# Altium footprint library Diode.PcbLib: 6 footprints
Each footprint in its own frame and in the unit in brackets; x right, y up, seen from the top. Pads: shape width x height; smd on the part's side, far side on the other; paste and mask are expansions set on the pad; w line width, h text height; cw(c..) or ccw(c..) is an arc to the next point about the centre after c.
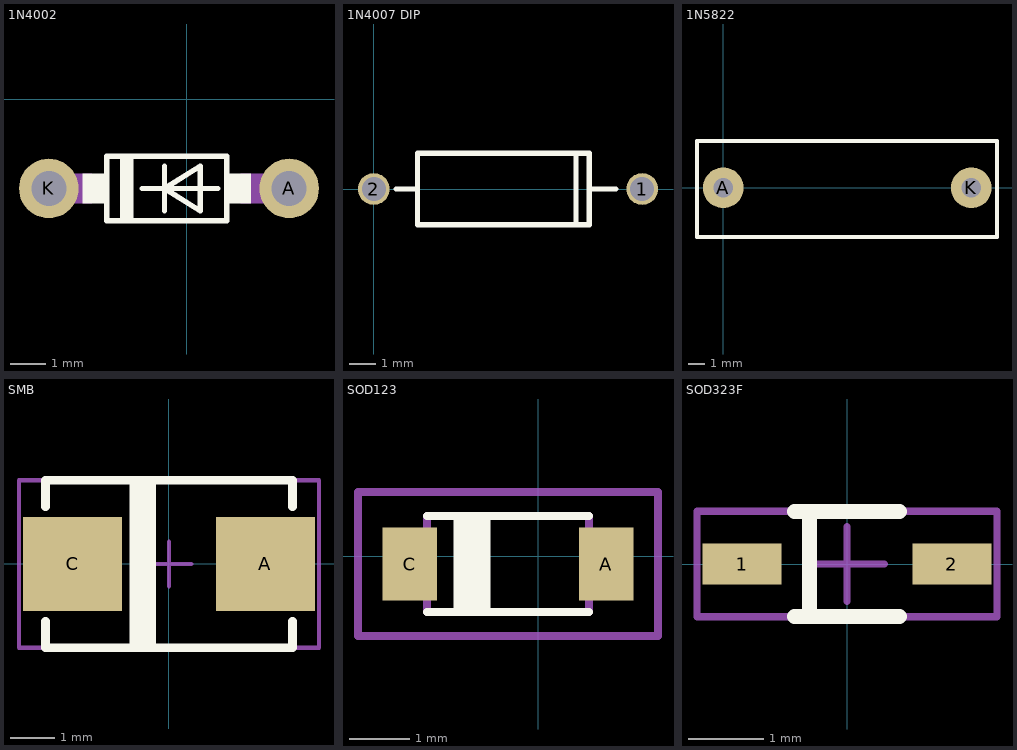
[diagram p0: the footprints below, top view; thin cyan lines are the x and y axes]

## 1N4002 [mm]
pads (2):
  round 1.7 hole 1: A(2.921,-2.54) K(-3.937,-2.54)
Top Overlay:
  region: -1.524,-3.492 -1.905,-3.492 -1.905,-1.62 -1.524,-1.62
  region: 1.828,-2.965 1.194,-2.965 1.194,-2.115 1.828,-2.115
  region: -2.336,-2.965 -2.973,-2.965 -2.973,-2.115 -2.336,-2.115
  lines w0.152: -1.27,-2.54 -0.635,-2.54 ; -0.635,-3.175 -0.635,-2.54 ; -0.635,-1.905 -0.635,-2.54 ; 0.889,-2.54 -0.635,-2.54 ; -0.635,-2.54 0.381,-3.175 0.381,-1.905 -0.635,-2.54 ; -2.286,-3.46 1.143,-3.46 1.143,-1.62 -2.286,-1.62 -2.286,-3.46
Mechanical 13:
  lines w0.85: -3.81,-2.54 -2.773,-2.54 ; 1.605,-2.54 2.667,-2.54
3D body "User Library-Diode 1N4002 x7mm (pcb).STEP": height 3.31, standoff -1.9, extent -4.408,-3.85 3.392,-1.23

## 1N4007 DIP [mm]
pads (2):
  round 1.2 hole 0.9: 1(10.15,0) 2(0,0)
Top Overlay:
  lines w0.2: 0.85,0 1.65,0 ; 7.65,-1.35 7.65,1.35 ; 9.15,0 8.15,0 ; 8.15,0 8.15,-1.35 1.65,-1.35 1.65,1.35 8.15,1.35 8.15,0
3D body "DO41.STEP": height 3.35, standoff -2, extent -0.43,-1.35 10.59,1.35

## 1N5822 [mm] "Schottky Diyot"
pads (2):
  round 2.5 hole 1.2 mask+0.102: A(0,0) K(15.215,0)
Top Overlay:
  lines w0.254: -1.61,-3.025 16.79,-3.025 16.79,2.875 -1.61,2.875 -1.61,-3.025
Mechanical 3:
  lines w0.254: -1.61,-3.025 16.79,-3.025 16.79,2.875 -1.61,2.875 -1.61,-3.025
3D body "Diodo 1N5822.STEP": height 6.16, standoff -2.5, extent -0.65,-2.66 15.89,2.66

## SMB [mm]
pads (2):
  rect 2.25x2.12 smd mask+0.05: A(2.185,0) C(-2.185,0)
Top Overlay:
  rectangle: -0.9,-1.9 -0.3,1.9
  lines w0.2: -2.8,-1.3 -2.8,-1.9 2.8,-1.9 2.8,-1.3 ; -2.8,1.3 -2.8,1.9 2.8,1.9 2.8,1.3
Top Component Center:
  lines w0.1: -0.5,0 0.5,0 ; 0,-0.5 0,0.5 ; -3.4,-1.9 -3.4,1.9 3.4,1.9 3.4,-1.9 -3.4,-1.9
Mechanical 15:
  lines w0.1: -3.4,-1.9 3.4,-1.9 3.4,1.9 -3.4,1.9 -3.4,-1.9
3D body "1SMB5919BT3G.STEP": height 2.44, standoff -0.03, extent -2.72,-1.78 2.72,1.78

## SOD123 [mm]
pads (2):
  rect 0.91x1.22 smd: A(1.127,-0.127) C(-2.143,-0.127)
Top Overlay:
  region: -0.808,-0.928 -1.409,-0.928 -1.409,0.673 -0.808,0.673
  lines w0.127: -1.858,-0.927 0.842,-0.927 ; -1.858,0.673 0.842,0.673
Mechanical 13:
  lines w0.127: -1.858,-0.927 -1.858,0.673 ; 0.842,-0.927 0.842,0.673
Mechanical 15:
  lines w0.127: -3.008,-1.327 -3.008,1.073 1.992,1.073 1.992,-1.327 -3.008,-1.327
3D body "MBR0520LT1G.STEP": height 1.35, standoff 0, extent -2.366,-0.952 1.316,0.648

## SOD323F [mm]
pads (2):
  rect 1.05x0.55 smd mask+0.05: 1(-1.4,0) 2(1.4,0)
Top Overlay:
  lines w0.2: -0.7,-0.7 0.7,-0.7 ; -0.7,0.7 0.7,0.7 ; -0.5,-0.6 -0.5,0.7
Top Component Center:
  lines w0.1: -0.5,0 0.5,0 ; 0,-0.5 0,0.5 ; -2,-0.7 -2,0.7 -0.4,0.7 2,0.7 2,-0.7 -2,-0.7
Mechanical 15:
  lines w0.1: -2,-0.7 2,-0.7 2,0.7 -0.4,0.7 -2,0.7 -2,-0.7
3D body "User Library-SOD323F-1.step": height 1, standoff 0, extent -1.25,-0.675 1.25,0.675